# Altium footprint library PCB_Switches.PcbLib: 4 footprints
Each footprint in its own frame and in the unit in brackets; x right, y up, seen from the top. Pads: shape width x height; smd on the part's side, far side on the other; paste and mask are expansions set on the pad; w line width, h text height; cw(c..) or ccw(c..) is an arc to the next point about the centre after c.
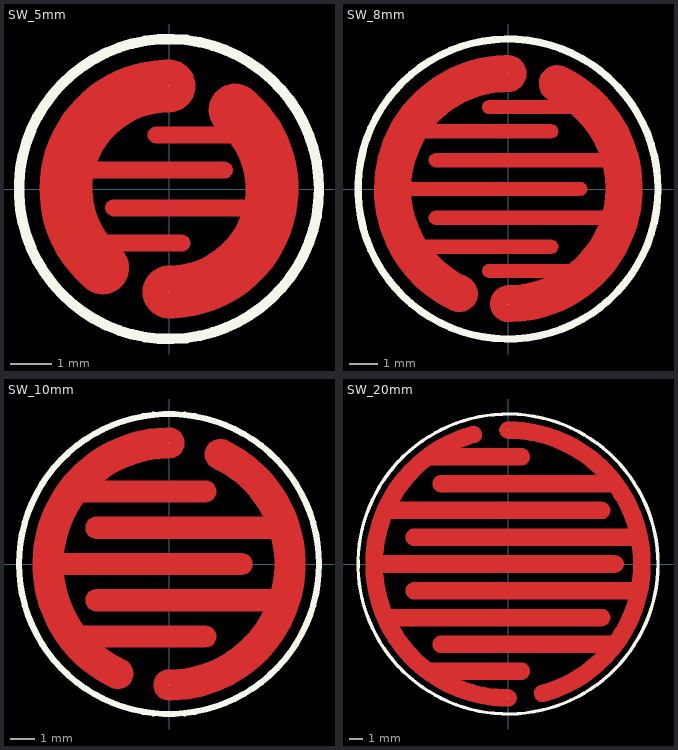
[diagram p0: the footprints below, top view; thin cyan lines are the x and y axes]

## SW_5mm [mil]
pads (2):
  round 1 smd: 1(0,98.43) 2(0,-98.43)
Top Layer:
  region: -58.91,-43.8 -60.97,-40.89 -64.64,-34.79 -67.71,-28.35 -70.14,-21.65 -71.91,-14.75 -73,-7.71 -73.41,-0.59 -73.12,6.53 -72.72,10.07 52.94,10.07 53.72,10.07 55.24,10.38 56.68,10.97 57.97,11.84 59.07,12.93 59.93,14.23 60.53,15.66 60.83,17.19 60.83,17.96 60.83,18.74 60.53,20.26 59.93,21.7 59.07,22.99 57.97,24.09 56.68,24.95 55.24,25.55 53.72,25.85 52.94,25.85 -68.71,25.85 -67.32,29.28 -64.02,35.92 -60.08,42.18 -55.52,48.02 -50.4,53.37 -44.77,58.18 -38.68,62.39 -32.2,65.97 -25.39,68.88 -18.32,71.09 -11.07,72.57 -3.7,73.32 0,73.41 1.64,73.41 4.89,73.84 8.06,74.69 11.09,75.94 13.93,77.58 16.53,79.58 18.85,81.9 20.84,84.5 22.48,87.34 23.74,90.37 24.59,93.53 25.01,96.79 25.02,98.43 25.02,100.06 24.59,103.32 23.74,106.48 22.48,109.51 20.84,112.35 18.85,114.95 16.53,117.27 13.93,119.27 11.09,120.91 8.06,122.16 4.89,123.01 1.64,123.44 0,123.44 -4.72,123.44 -14.12,122.72 -23.44,121.29 -32.62,119.14 -41.62,116.31 -50.37,112.8 -58.83,108.62 -66.94,103.82 -74.66,98.41 -81.95,92.43 -88.77,85.91 -95.06,78.89 -100.8,71.4 -105.96,63.51 -110.49,55.24 -114.38,46.65 -117.61,37.79 -120.15,28.71 -121.99,19.46 -123.12,10.1 -123.53,0.67 -123.22,-8.75 -122.19,-18.13 -120.45,-27.39 -118.01,-36.5 -114.89,-45.4 -111.09,-54.03 -106.64,-62.35 -101.57,-70.3 -95.92,-77.84 -89.7,-84.93 -82.96,-91.53 -79.35,-94.56 -77.98,-95.7 -74.97,-97.58 -71.72,-99.01 -68.29,-99.97 -64.77,-100.43 -61.22,-100.39 -57.71,-99.85 -54.3,-98.82 -51.08,-97.32 -48.11,-95.38 -45.44,-93.03 -43.12,-90.34 -41.21,-87.34 -39.75,-84.1 -38.75,-80.69 -38.25,-77.17 -38.25,-75.4 -38.25,-73.25 -38.98,-69.02 -40.42,-64.98 -42.53,-61.24 -43.89,-59.58 12.32,-59.58 13.1,-59.58 14.62,-59.28 16.06,-58.68 17.35,-57.82 18.45,-56.72 19.31,-55.43 19.91,-53.99 20.21,-52.47 20.21,-51.69 20.21,-50.92 19.91,-49.39 19.31,-47.96 18.45,-46.66 17.35,-45.57 16.06,-44.7 14.62,-44.11 13.1,-43.8 12.32,-43.8
  region: -52.95,-25.84 -53.99,-25.84 -56,-25.3 -57.8,-24.27 -59.27,-22.8 -60.3,-21 -60.84,-18.99 -60.84,-16.91 -60.3,-14.91 -59.27,-13.11 -57.8,-11.64 -56,-10.6 -53.99,-10.06 -52.95,-10.06 72.72,-10.06 72.88,-8.81 73.14,-6.3 73.31,-3.78 73.4,-1.26 73.41,0 73.35,2.93 72.88,8.78 71.95,14.57 70.56,20.26 68.72,25.83 66.44,31.23 63.73,36.43 60.62,41.4 58.92,43.79 -12.31,43.79 -13.35,43.79 -15.35,44.33 -17.15,45.37 -18.62,46.84 -19.66,48.63 -20.2,50.64 -20.2,52.72 -19.66,54.73 -18.62,56.52 -17.15,57.99 -15.35,59.03 -13.35,59.57 -12.31,59.57 43.9,59.57 42.73,61 40.83,64.18 39.42,67.61 38.54,71.2 38.19,74.88 38.39,78.58 39.13,82.21 40.39,85.69 42.15,88.94 44.38,91.9 47.01,94.5 50,96.69 53.28,98.41 56.77,99.63 60.41,100.32 64.11,100.47 67.79,100.07 71.37,99.14 74.77,97.69 77.93,95.75 79.35,94.56 82.79,91.67 89.23,85.42 95.2,78.71 100.67,71.58 105.6,64.08 109.98,56.24 113.77,48.1 116.97,39.7 119.54,31.1 121.49,22.33 122.79,13.45 123.44,4.49 123.44,0 123.44,-4.85 122.68,-14.52 121.16,-24.1 118.9,-33.53 115.9,-42.76 112.19,-51.72 107.78,-60.36 102.72,-68.63 97.01,-76.48 90.71,-83.86 83.86,-90.71 76.48,-97.01 68.63,-102.72 60.36,-107.78 51.72,-112.19 42.76,-115.9 33.53,-118.9 24.1,-121.16 14.52,-122.68 4.85,-123.44 0,-123.44 -1.97,-123.44 -5.86,-122.82 -9.6,-121.61 -13.11,-119.82 -16.3,-117.51 -19.08,-114.72 -21.39,-111.54 -23.18,-108.03 -24.4,-104.28 -25.02,-100.39 -25.02,-96.46 -24.4,-92.57 -23.18,-88.82 -21.39,-85.31 -19.08,-82.13 -16.3,-79.34 -13.11,-77.03 -9.6,-75.24 -5.86,-74.03 -1.97,-73.41 0,-73.41 3.7,-73.32 11.07,-72.57 18.33,-71.09 25.39,-68.88 32.2,-65.97 38.69,-62.39 44.78,-58.17 50.41,-53.37 55.53,-48.02 60.08,-42.18 64.03,-35.91 67.32,-29.27 68.71,-25.84
Top Overlay:
  circle w10: c0,0 r143.31

## SW_8mm [mil]
pads (2):
  round 1 smd: 1(0,157.48) 2(0,-157.48)
Top Layer:
  region: 201 vertices and 0 holes, not listed, extent -182.58,-167.82 107.89,182.5
  region: 194 vertices and 0 holes, not listed, extent -107.89,-181.47 183.33,168.81
Top Overlay:
  circle w10: c0,0 r204.72

## SW_10mm [mil]
pads (2):
  round 1 smd: 1(0,196.85) 2(0,-196.85)
Top Layer:
  region: 202 vertices and 0 holes, not listed, extent -221.91,-203.51 135.84,221.87
  region: 180 vertices and 0 holes, not listed, extent -135.84,-221.87 221.87,203.48
Top Overlay:
  circle w10: c0,0 r244.09

## SW_20mm [mil]
pads (2):
  round 1 smd: 1(0,393.7) 2(0,-393.7)
Top Layer:
  region: 330 vertices and 0 holes, not listed, extent -418.72,-418.72 339.98,405.36
  region: 274 vertices and 0 holes, not listed, extent -300.61,-405.37 418.72,418.72
Top Overlay:
  circle w10: c0,0 r440.94